# Altium integrated library lib_diodesinc.IntLib: 8 symbols
Pins are listed as number, name and electrical type; pins without a type are passive.

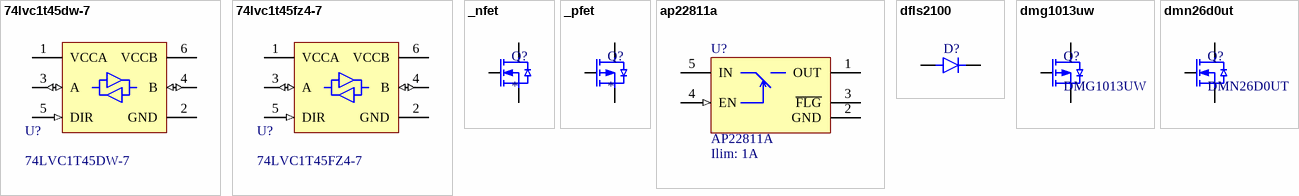
[diagram p0: symbols 74lvc1t45dw-7 to dmn26d0ut]

## 74lvc1t45dw-7
designator U?, comment 74LVC1T45DW-7
SINGLE BIT DUAL POWER SUPPLY TRANSLATING TRANSCEIVER WITH 3 STATE OUTPUTS; Supplier 1: Mouser; Supplier Part Number 1: 621-74LVC1T45DW-7; Supplier 2: Digi-Key; Supplier Part Number 2: 74LVC1T45DW-7DI-ND; Supplier 3: LCSC; Supplier Part Number 3: C168855
footprint SOT65P210X110-6N_74LVC1T45 (SOT23, 6-Leads, Body 2.00x2.10mm, Pitch 0.65mm, IPC Medium Density)
pins: 1 VCCA (power), 2 GND (power), 3 A (io), 4 B (io), 5 DIR (in), 6 VCCB (power)

## 74lvc1t45fz4-7
designator U?, comment 74LVC1T45FZ4-7
SINGLE BIT DUAL POWER SUPPLY TRANSLATING TRANSCEIVER WITH 3 STATE OUTPUTS; Supplier 1: Digi-Key; Supplier Part Number 1: 74LVC1T45FZ4-7DICT-ND; Supplier 2: Digi-Key; Supplier Part Number 2: 74LVC1T45FZ4-7DIDKR-ND; Supplier 3: Mouser; Supplier Part Number 3: 621-74LVC1T45FZ4-7
footprint SON50P100X40-6N_74LVC1T45 (SON, 6-Leads, Body 1.40x1.00mm, Pitch 0.50mm, IPC Medium Density)
pins: 1 VCCA (power), 2 GND (power), 3 A (io), 4 B (io), 5 DIR (in), 6 VCCB (power)

## _nfet
designator Q?
N-channel MOSFET
pins: D, G, S

## _pfet
designator Q?
P-channel MOSFET
pins: D, G, S

## ap22811a
designator U?, comment AP22811A  Ilim: 1A
SINGLE CHANNEL POWER DISTRIBUTION LOAD SWITCH; ComponentLink1Description: Datasheet; ComponentLink1URL: https://www.diodes.com/assets/Datasheets/AP22811.pdf; Supplier 1: Digi-Key; Supplier Part Number 1: AP22811AW5-7DICT-ND; Supplier 2: Digi-Key; Supplier Part Number 2: AP22811AW5-7DIDKR-ND; Supplier 3: Digi-Key; Supplier Part Number 3: AP22811AW5-7DITR-ND; Supplier 4: Mouser; Supplier Part Number 4: 621-AP22811AW5-7
footprint SOT95P285X140-5N_AP22811 (SOT23, 5-Leads, Body 3.00x2.85mm, Pitch 0.95mm, IPC Medium Density)
pins: 1 OUT (power), 2 GND (power), 3 ~{FLG} (oc), 4 EN (in), 5 IN (power)

## dfls2100
designator D?, comment DFLS2100  (value not drawn)
2.0A HIGH VOLTAGE SCHOTTKY BARRIER RECTIFIER; ComponentLink1Description: datasheet; ComponentLink1URL: https://www.diodes.com/assets/Datasheets/ds31475.pdf
footprint SODFL370X100-2N_DFLS2100 (SODFL, 2-Leads, Body 1.78x3.70mm, IPC Medium Density)
pins: A, C

## dmg1013uw
designator Q?, comment DMG1013UW
P-CHANNEL ENHANCEM / ENT MODE MOSFET; ComponentLink1Description: datasheet; ComponentLink1URL: https://www.mouser.se/datasheet/2/115/ds31861-67449.pdf
footprint SOT65P210X100-3N (SOT23, 3-Leads, Body 2,00x2,10mm, Pitch 0,65mm, IPC Medium Density)
pins: D, G, S

## dmn26d0ut
designator Q?, comment DMN26D0UT
N-channel MOSFET; Supplier 1: Digi-Key; Supplier Part Number 1: DMN26D0UT-7DICT-ND; Supplier 2: Digi-Key; Supplier Part Number 2: DMN26D0UT-7DIDKR-ND; Supplier 3: Digi-Key; Supplier Part Number 3: DMN26D0UT-7DITR-ND; Supplier 4: Mouser; Supplier Part Number 4: 621-DMN26D0UT-7
footprint SOT50P160X90-3N_DMN26D0UT (SOT23, 3-Leads, Body 1.60x1.60mm, Pitch 0.50mm, IPC Medium Density)
pins: D, G, S